# Altium integrated library BY-IOM-v0.2.IntLib: 71 symbols
Pins are listed as number, name and electrical type; pins without a type are passive.

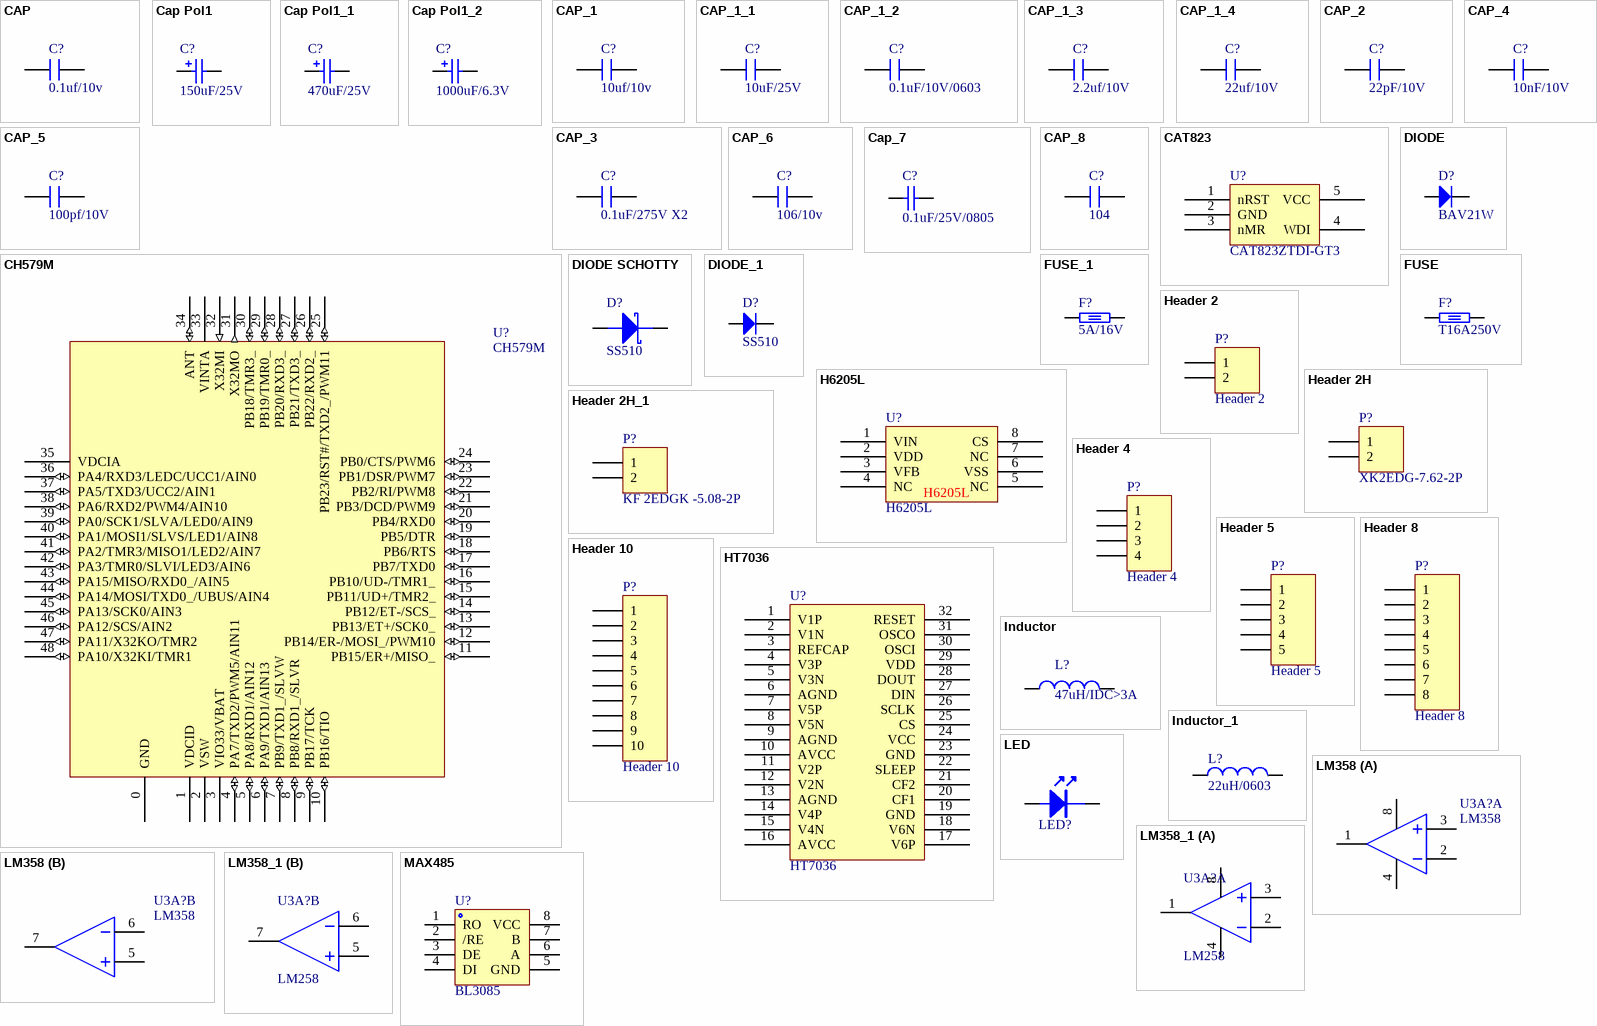
[diagram p0: symbols CAP to MAX485]

## CAP
designator C?, comment 0.1uf/10v
footprint 0805C
footprint 0603R
footprint 0805R
footprint 0805C
footprint 0603C
pins: 1, 2

## Cap Pol1
designator C?, comment 150uF/25V
Polarized Capacitor (Radial); Published: 8-Jun-2000; LatestRevisionDate: 17-Jul-2002; LatestRevisionNote: Re-released for DXP Platform.; PackageReference: RB7.6-15; Publisher: Altium Limited; PackageDescription: Polarized Capacitor (Radial); 2 Leads
footprint RB7.6-15 (Polarized Capacitor (Radial); 2 Leads)
simulation model CAP (Capacitor)
signal-integrity model Cap Pol
footprint CAPPIND06
footprint Model Name (Footprint not found)
footprint CAPPIND06
pins: 1, 2
1 alternate drawing of the same symbol

## Cap Pol1_1
designator C?, comment 470uF/25V
Polarized Capacitor (Radial); Published: 8-Jun-2000; LatestRevisionDate: 17-Jul-2002; LatestRevisionNote: Re-released for DXP Platform.; PackageReference: RB7.6-15; Publisher: Altium Limited; PackageDescription: Polarized Capacitor (Radial); 2 Leads
footprint RB7.6-15 (Polarized Capacitor (Radial); 2 Leads)
simulation model CAP (Capacitor)
signal-integrity model Cap Pol
footprint CAPPIND06
footprint Model Name (Footprint not found)
footprint CAPPIND06
footprint CAPPIN10
pins: 1, 2
1 alternate drawing of the same symbol

## Cap Pol1_2
designator C?, comment 1000uF/6.3V
Polarized Capacitor (Radial); Published: 8-Jun-2000; LatestRevisionDate: 17-Jul-2002; LatestRevisionNote: Re-released for DXP Platform.; PackageReference: RB7.6-15; Publisher: Altium Limited; PackageDescription: Polarized Capacitor (Radial); 2 Leads
footprint RB7.6-15 (Polarized Capacitor (Radial); 2 Leads)
simulation model CAP (Capacitor)
signal-integrity model Cap Pol
footprint CAPPIND06
footprint Model Name (Footprint not found)
footprint CAPPIND06
footprint CAPPIND06
footprint CAPPIN10
pins: 1, 2
1 alternate drawing of the same symbol

## CAP_1
designator C?, comment 10uf/10v
footprint 0805C
footprint 0603R
footprint 0805R
footprint 0805C
footprint 0603C
pins: 1, 2

## CAP_1_1
designator C?, comment 10uF/25V
footprint 0805C
footprint 0603R
footprint 0805C
footprint 0603C
footprint 0603C
footprint 0402
footprint 0603C
footprint 0805
footprint 0805C
footprint 0603R
pins: 1, 2

## CAP_1_2
designator C?, comment 0.1uF/10V/0603
footprint 0805C
footprint 0603R
footprint 0805C
footprint 0603C
footprint 0603R
pins: 1, 2

## CAP_1_3
designator C?, comment 2.2uf/10V
footprint 0805C
footprint 0603R
footprint 0805C
footprint 0603C
footprint 0805C
footprint 0805R
footprint 0603R
pins: 1, 2

## CAP_1_4
designator C?, comment 22uf/10V
footprint 0805C
footprint 0603R
footprint 0805C
footprint 0603C
footprint 0805C
footprint 0805R
footprint 0603R
pins: 1, 2

## CAP_2
designator C?, comment 22pF/10V
footprint 0805C
footprint 0603R
footprint 0805R
footprint 0805C
footprint 0603C
pins: 1, 2

## CAP_3
designator C?, comment 0.1uF/275V X2
footprint 0805C
footprint 0603R
footprint CBBP10-2
pins: 1, 2

## CAP_4
designator C?, comment 10nF/10V
footprint 0805C
footprint 0603R
footprint 0805C
footprint 0603R
footprint 0805C
footprint 0603C
pins: 1, 2

## CAP_5
designator C?, comment 100pf/10V
footprint 0805C
footprint 0603R
footprint 0603R
pins: 1, 2

## CAP_6
designator C?, comment 106/10v
footprint 0805C
footprint 0603R
footprint 0805R
footprint 0805C
footprint 0603C
pins: 1, 2

## Cap_7
designator C?, comment 0.1uF/25V/0805
Capacitor; Value: 100pF; Published: 8-Jun-2000; LatestRevisionDate: 17-Jul-2002; LatestRevisionNote: Re-released for DXP Platform.; PackageReference: RAD-0.3; Publisher: Altium Limited; PackageDescription: Radial Cap, Thru-Hole; 2 Leads; 0.3 in Pin Spacing
footprint RAD-0.3 (Radial Cap, Thru-Hole; 2 Leads; 0.3 in Pin Spacing)
simulation model CAP (Capacitor)
signal-integrity model Cap
footprint 0805C
footprint 0805R
pins: 1, 2

## CAP_8
designator C?, comment 104
footprint 0805C
footprint 0603R
footprint 0603R
pins: 1, 2

## CAT823
designator U?, comment CAT823ZTDI-GT3
footprint SOT-23-5
pins: 1 nRST, 2 GND, 3 nMR, 4 WDI, 5 VCC

## CH579M
designator U?
ARM M0 MCU with Bluetooth-LowEnergy+Ethernet+USB+segment-LCD
footprint QFN48_5X5
pins: 0 GND (power), 1 VDCID (power), 2 VSW (power), 3 VIO33/VBAT (power), 4 PA7/TXD2/PWM5/AIN11 (io), 5 PA8/RXD1/AIN12 (io), 6 PA9/TXD1/AIN13 (io), 7 PB9/TXD1_/SLVW (io), 8 PB8/RXD1_/SLVR (io), 9 PB17/TCK (io), 10 PB16/TIO (io), 11 PB15/ER+/MISO_ (io), 12 PB14/ER-/MOSI_/PWM10 (io), 13 PB13/ET+/SCK0_ (io), 14 PB12/ET-/SCS_ (io), 15 PB11/UD+/TMR2_ (io), 16 PB10/UD-/TMR1_ (io), 17 PB7/TXD0 (io), 18 PB6/RTS (io), 19 PB5/DTR (io), 20 PB4/RXD0 (io), 21 PB3/DCD/PWM9 (io), 22 PB2/RI/PWM8 (io), 23 PB1/DSR/PWM7 (io), 24 PB0/CTS/PWM6 (io), 25 PB23/RST#/TXD2_/PWM11 (io), 26 PB22/RXD2_ (io), 27 PB21/TXD3_ (io), 28 PB20/RXD3_ (io), 29 PB19/TMR0_ (io), 30 PB18/TMR3_ (io), 31 X32MO (out), 32 X32MI (in), 33 VINTA (power), 34 ANT (io), 35 VDCIA (power), 36 PA4/RXD3/LEDC/UCC1/AIN0 (io), 37 PA5/TXD3/UCC2/AIN1 (io), 38 PA6/RXD2/PWM4/AIN10 (io), 39 PA0/SCK1/SLVA/LED0/AIN9 (io), 40 PA1/MOSI1/SLVS/LED1/AIN8 (io), 41 PA2/TMR3/MISO1/LED2/AIN7 (io), 42 PA3/TMR0/SLVI/LED3/AIN6 (io), 43 PA15/MISO/RXD0_/AIN5 (io), 44 PA14/MOSI/TXD0_/UBUS/AIN4 (io), 45 PA13/SCK0/AIN3 (io), 46 PA12/SCS/AIN2 (io), 47 PA11/X32KO/TMR2 (io), 48 PA10/X32KI/TMR1 (io)

## DIODE
designator D?, comment BAV21W
footprint 1206D
pins: 1 K, 2 A

## DIODE SCHOTTY
designator D?, comment SS510
footprint DO-214AC
pins: 1 K, 2 A

## DIODE_1
designator D?, comment SS510
footprint 1206D
footprint DO-214AC
footprint DO-214AC
pins: 1 K, 2 A

## FUSE
designator F?, comment T16A250V
footprint 1812
footprint 5X20 保险丝座
footprint T16A250V
pins: 1, 2

## FUSE_1
designator F?, comment 5A/16V
footprint 1812
footprint 5X20 保险丝座
footprint T16A250V
footprint 1206
pins: 1, 2

## H6205L
designator U?
footprint SO8
pins: 1 VIN, 2 VDD, 3 VFB, 4 NC, 5 NC, 6 VSS, 7 NC, 8 CS

## Header 2
designator P?
Header, 2-Pin; LatestRevisionDate: 17-Jul-2002; LatestRevisionNote: Re-released for DXP Platform.; Publisher: Altium Limited
footprint HDR1X2 (Connector; Header; 2 Position)
signal-integrity model Connector
footprint VH3.96-2P-垂直白色
pins: 1, 2

## Header 2H
designator P?, comment XK2EDG-7.62-2P
Header, 2-Pin, Right Angle; LatestRevisionDate: 17-Jul-2002; LatestRevisionNote: Re-released for DXP Platform.; Publisher: Altium Limited
footprint HDR1X2H (Connector; Header; 2 Position; Right Angle)
signal-integrity model Connector
footprint KF-5.08-2P-Z
footprint XK2EDG-7.62-2P
footprint KF-5.08-2P-Z
footprint KF2EDGK-3.81-2P
footprint KF2EDGK-5.08mm-2P
footprint XK2EDG-7.62-2P
pins: 1, 2

## Header 2H_1
designator P?, comment KF 2EDGK -5.08-2P
Header, 2-Pin, Right Angle; LatestRevisionDate: 17-Jul-2002; LatestRevisionNote: Re-released for DXP Platform.; Publisher: Altium Limited
footprint HDR1X2H (Connector; Header; 2 Position; Right Angle)
signal-integrity model Connector
footprint KF-5.08-2P-Z
footprint XK2EDG-7.62-2P
footprint KF-5.08-2P-Z
footprint KF2EDGK-3.81-2P
footprint KF2EDGK-5.08mm-2P
footprint XK2EDG-7.62-2P
pins: 1, 2

## Header 4
designator P?
Header, 4-Pin; LatestRevisionDate: 17-Jul-2002; LatestRevisionNote: Re-released for DXP Platform.; Publisher: Altium Limited
footprint HDR1X4 (Connector; Header; 4 Position)
signal-integrity model Connector
footprint VH3.96-4P-垂直白色
pins: 1, 2, 3, 4

## Header 5
designator P?
Header, 5-Pin; LatestRevisionDate: 17-Jul-2002; LatestRevisionNote: Re-released for DXP Platform.; Publisher: Altium Limited
footprint HDR1X5 (Connector; Header; 5 Position)
signal-integrity model Connector
footprint VH3.96-6P-垂直白色
footprint VH3.96-5P垂直白色
pins: 1, 2, 3, 4, 5

## Header 8
designator P?
Header, 8-Pin; LatestRevisionDate: 17-Jul-2002; LatestRevisionNote: Re-released for DXP Platform.; Publisher: Altium Limited
footprint HDR1X8 (Connector; Header; 8 Position)
signal-integrity model Connector
footprint XH2.54-8P
pins: 1, 2, 3, 4, 5, 6, 7, 8

## Header 10
designator P?
Header, 10-Pin; LatestRevisionDate: 17-Jul-2002; LatestRevisionNote: Re-released for DXP Platform.; Publisher: Altium Limited
footprint HDR1X10 (Connector; Header; 10 Position)
signal-integrity model Connector
footprint VH3.96-10P-垂直白色
pins: 1, 2, 3, 4, 5, 6, 7, 8, 9, 10

## HT7036
designator U?
footprint LQFP32
pins: 1 V1P, 2 V1N, 3 REFCAP, 4 V3P, 5 V3N, 6 AGND, 7 V5P, 8 V5N, 9 AGND, 10 AVCC, 11 V2P, 12 V2N, 13 AGND, 14 V4P, 15 V4N, 16 AVCC, 17 V6P, 18 V6N, 19 GND, 20 CF1, 21 CF2, 22 SLEEP, 23 GND, 24 VCC, 25 CS, 26 SCLK, 27 DIN, 28 DOUT, 29 VDD, 30 OSCI, 31 OSCO, 32 RESET

## Inductor
designator L?, comment 47uH/IDC>3A
Inductor
footprint 0402-A (Chip Inductor, Body 1.0x0.5mm, IPC High Density)
footprint INDC1608L (Chip Inductor, Body 1.6x0.8mm, IPC High Density)
footprint 2029 (Chip Inductor, Body 2.0x1.2mm, IPC High Density)
footprint 0603 (Chip Inductor, Body 0.6x0.3mm, IPC High Density)
footprint INDC3216 (Chip Inductor, Body 3.2x1.6mm, IPC High Density)
footprint INDC4532 (Chip Inductor, Body 4.5x3.2mm, IPC High Density)
simulation model INDUCTOR (Inductor)
signal-integrity model Inductor
footprint 68uH/2A
footprint Model Name (Footprint not found)
footprint 68uH/2A
footprint CD54
footprint CD54
footprint 47uH/10*10/2A
footprint CDRH8D38NP
pins: 1, 2

## Inductor_1
designator L?, comment 22uH/0603
Inductor
footprint 0402-A (Chip Inductor, Body 1.0x0.5mm, IPC High Density)
footprint INDC1608L (Chip Inductor, Body 1.6x0.8mm, IPC High Density)
footprint 2029 (Chip Inductor, Body 2.0x1.2mm, IPC High Density)
footprint 0603 (Chip Inductor, Body 0.6x0.3mm, IPC High Density)
footprint INDC3216 (Chip Inductor, Body 3.2x1.6mm, IPC High Density)
footprint INDC4532 (Chip Inductor, Body 4.5x3.2mm, IPC High Density)
simulation model INDUCTOR (Inductor)
signal-integrity model Inductor
footprint 68uH/2A
footprint Model Name (Footprint not found)
footprint 68uH/2A
footprint CD54
footprint CD54
footprint 0603R
pins: 1, 2

## LED
designator LED?  (value not drawn)
footprint 0603LED
footprint LED
footprint 0805led
footprint 0805LED
footprint LED
footprint 0805LED
pins: 1, 2

## LM358
designator U3A?
footprint SO8
part A pins: 1, 2, 3, 4, 8
part B pins: 5, 6, 7

## LM358_1
designator U3A?, comment LM258
footprint SO8
part A pins: 1, 2, 3, 4, 8
part B pins: 5, 6, 7

## MAX485
designator U?, comment BL3085
footprint SO8
pins: 1 RO, 2 /RE, 3 DE, 4 DI, 5 GND, 6 A, 7 B, 8 VCC

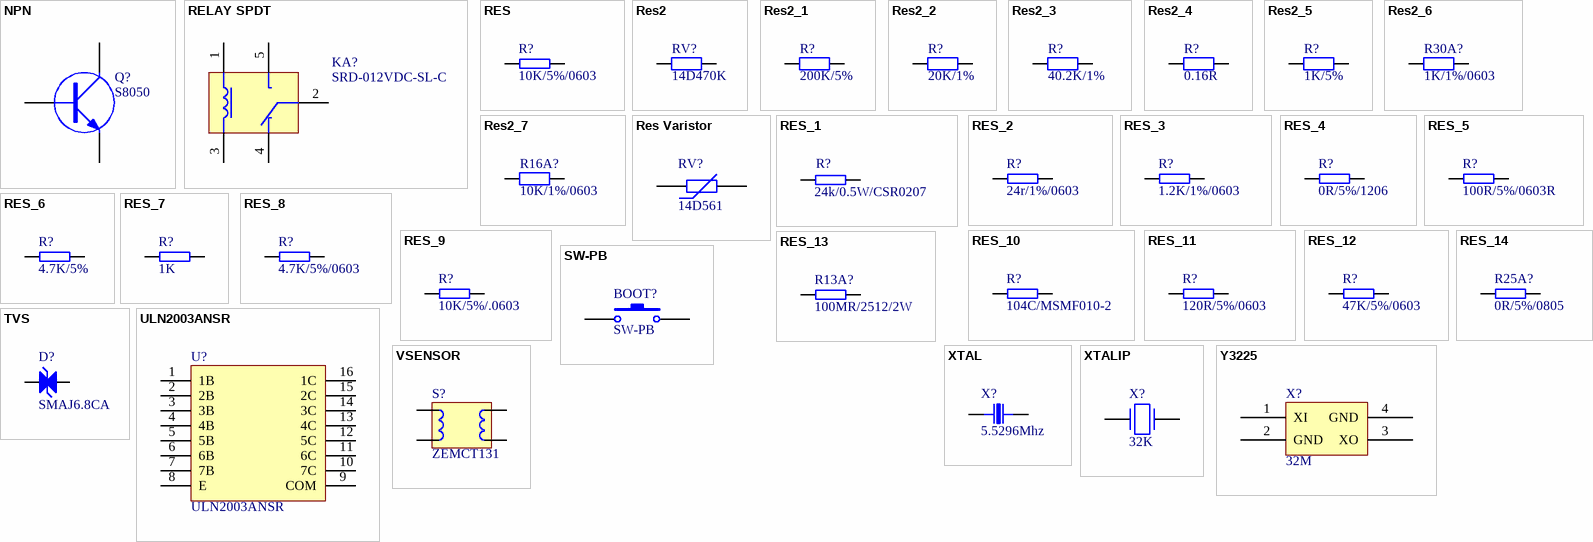
[diagram p1: symbols NPN to Y3225]

## NPN
designator Q?, comment S8050
footprint SOT-23
pins: 1 B, 2 E, 3 C

## RELAY SPDT
designator KA?, comment SRD-012VDC-SL-C
footprint SRD-05VDC-SL-C
footprint SRD-05VDC-SL-C
pins: 1, 2, 3, 4, 5

## RES
designator R?, comment 10K/5%/0603
footprint 0603R
footprint 0603r
footprint 0805R
footprint 0603R
pins: 1, 2

## Res2
designator RV?, comment 14D470K
Resistor; Published: 8-Jun-2000; LatestRevisionDate: 17-Jul-2002; LatestRevisionNote: Re-released for DXP Platform.; PackageReference: AXIAL-0.4; Publisher: Altium Limited; PackageDescription: Axial Device, Thru-Hole; 2 Leads; 0.4 in Pin Spacing
footprint AXIAL-0.4 (Axial Device, Thru-Hole; 2 Leads; 0.4 in Pin Spacing)
simulation model RESISTOR (Resistor)
signal-integrity model Res
footprint 0805R
footprint MOV14 (Footprint not found)
footprint 0805R
footprint MOV14D
pins: 1, 2

## Res2_1
designator R?, comment 200K/5%
Resistor
footprint AXIAL-0.4 (Axial Device, Thru-Hole; 2 Leads; 0.4 in Pin Spacing)
simulation model RESISTOR (Resistor)
signal-integrity model Res
footprint 0603R
footprint 0805R
footprint 0603R
footprint 0402
footprint 0603R
footprint 0805R
footprint 0603R
footprint 1206
pins: 1, 2

## Res2_2
designator R?, comment 20K/1%
Resistor
footprint AXIAL-0.4 (Axial Device, Thru-Hole; 2 Leads; 0.4 in Pin Spacing)
simulation model RESISTOR (Resistor)
signal-integrity model Res
footprint 0603R
footprint 0805R
footprint 0603R
footprint 0402
footprint 0603R
footprint 0805R
footprint 0603R
pins: 1, 2

## Res2_3
designator R?, comment 40.2K/1%
Resistor
footprint AXIAL-0.4 (Axial Device, Thru-Hole; 2 Leads; 0.4 in Pin Spacing)
simulation model RESISTOR (Resistor)
signal-integrity model Res
footprint 0603R
footprint 0805R
footprint 0603R
footprint 0402
footprint 0603R
footprint 0805R
footprint 0603R
pins: 1, 2

## Res2_4
designator R?, comment 0.16R
Resistor
footprint AXIAL-0.4 (Axial Device, Thru-Hole; 2 Leads; 0.4 in Pin Spacing)
simulation model RESISTOR (Resistor)
signal-integrity model Res
footprint 0603R
footprint 0805R
footprint 0603R
footprint 0402
footprint 0603R
footprint 0805R
pins: 1, 2

## Res2_5
designator R?, comment 1K/5%
Resistor
footprint AXIAL-0.4 (Axial Device, Thru-Hole; 2 Leads; 0.4 in Pin Spacing)
simulation model RESISTOR (Resistor)
signal-integrity model Res
footprint 0603R
footprint 0805R
footprint 0603R
footprint 0402
footprint 0603R
footprint 0805R
footprint 1206
footprint 0805r
pins: 1, 2

## Res2_6
designator R30A?, comment 1K/1%/0603
Resistor; Published: 8-Jun-2000; LatestRevisionDate: 17-Jul-2002; LatestRevisionNote: Re-released for DXP Platform.; PackageReference: AXIAL-0.4; Publisher: Altium Limited; PackageDescription: Axial Device, Thru-Hole; 2 Leads; 0.4 in Pin Spacing
footprint AXIAL-0.4 (Axial Device, Thru-Hole; 2 Leads; 0.4 in Pin Spacing)
simulation model RESISTOR (Resistor)
signal-integrity model Res
footprint 0603R
footprint 1812
footprint 0805 (Footprint not found)
footprint 0603R
pins: 1, 2

## Res2_7
designator R16A?, comment 10K/1%/0603
Resistor; Published: 8-Jun-2000; LatestRevisionDate: 17-Jul-2002; LatestRevisionNote: Re-released for DXP Platform.; PackageReference: AXIAL-0.4; Publisher: Altium Limited; PackageDescription: Axial Device, Thru-Hole; 2 Leads; 0.4 in Pin Spacing
footprint AXIAL-0.4 (Axial Device, Thru-Hole; 2 Leads; 0.4 in Pin Spacing)
simulation model RESISTOR (Resistor)
signal-integrity model Res
footprint 0603R
footprint 1812
footprint 0805 (Footprint not found)
footprint 0603R
pins: 1, 2

## Res Varistor
designator RV?, comment 14D561
Varistor (Voltage-Sensitive Resistor); Published: 24-Mar-1999; LatestRevisionDate: 29-May-2009; LatestRevisionNote: IPC-7351 Footprint Added.; PackageVersion: Mar-2003; PackageReference: 6-0805; Publisher: Altium Limited; PackageDescription: Chip Resistor 0805 Case Size; Code_IPC: RESC2012
footprint VDR-Varistor
footprint MOV14D
pins: 1, 2

## RES_1
designator R?, comment 24k/0.5W/CSR0207
footprint 0603R
footprint 0309N
footprint CSR0207
pins: 1, 2

## RES_2
designator R?, comment 24r/1%/0603
footprint 0805R
footprint 0603R
footprint 0603R
footprint 0603R
footprint 0805R
footprint 0603R
pins: 1, 2

## RES_3
designator R?, comment 1.2K/1%/0603
footprint 0603R
footprint 0603r
footprint 0805R
footprint 0603R
pins: 1, 2

## RES_4
designator R?, comment 0R/5%/1206
footprint 0603R
footprint 0805r
footprint 0603R
footprint 1206
pins: 1, 2

## RES_5
designator R?, comment 100R/5%/0603R
footprint 0603R
footprint 0603r
footprint 0805R
footprint 0603R
pins: 1, 2

## RES_6
designator R?, comment 4.7K/5%
footprint 0603R
footprint 0603r
footprint 0805R
footprint 0603R
pins: 1, 2

## RES_7
designator R?, comment 1K
footprint 0603R
footprint 0603r
footprint 0805R
footprint 0603R
pins: 1, 2

## RES_8
designator R?, comment 4.7K/5%/0603
footprint 0603R
footprint 0805R
footprint 0603R
pins: 1, 2

## RES_9
designator R?, comment 10K/5%/.0603
footprint 0603R
footprint 0805R
footprint 0805R
footprint 0603R
pins: 1, 2

## RES_10
designator R?, comment 104C/MSMF010-2
footprint 0603R
footprint 1812
pins: 1, 2

## RES_11
designator R?, comment 120R/5%/0603
footprint 0603R
footprint 0805R
footprint 0805R
footprint 0603R
pins: 1, 2

## RES_12
designator R?, comment 47K/5%/0603
footprint 0603R
footprint 0805R
footprint 0603R
pins: 1, 2

## RES_13
designator R13A?, comment 100MR/2512/2W
footprint 1206
footprint RS1.0 (Footprint not found)
footprint RS1.0
footprint 0805R
footprint 2512
pins: 1, 2

## RES_14
designator R25A?, comment 0R/5%/0805
footprint 0603R
footprint 0603r
footprint 0805R
pins: 1, 2

## SW-PB
designator BOOT?
Switch; Published: 24-Mar-1999; LatestRevisionDate: 17-Jul-2002; LatestRevisionNote: Re-released for DXP Platform.; PackageReference: SPST-2; Publisher: Altium Limited; PackageDescription: Switch; 2 Leads
footprint SW_3*6
footprint 轻触开关卧式带支架6*6
footprint SW_3*6
pins: 1, 2

## TVS
designator D?, comment SMAJ6.8CA
footprint DO-214AC
pins: 1 K, 2 A

## ULN2003ANSR
designator U?
footprint SO16
pins: 1 1B, 2 2B, 3 3B, 4 4B, 5 5B, 6 6B, 7 7B, 8 E, 9 COM, 10 7C, 11 6C, 12 5C, 13 4C, 14 3C, 15 2C, 16 1C

## VSENSOR
designator S?, comment ZEMCT131
footprint VSENSOR
footprint ZEMCT131
pins: 1, 2, 3, 4

## XTAL
designator X?, comment 5.5296Mhz
footprint Y3215
footprint 5032
footprint XTALIP
pins: 1, 2

## XTALIP
designator X?, comment 32K
footprint Y3215
pins: 1, 2

## Y3225
designator X?, comment 32M
footprint XT3225
pins: 1 XI, 2 GND, 3 XO, 4 GND